# Altium footprint library Chip Resistor - 2 Contacts.PcbLib: 13 footprints
Each footprint in its own frame and in the unit in brackets; x right, y up, seen from the top. Pads: shape width x height; smd on the part's side, far side on the other; paste and mask are expansions set on the pad; w line width, h text height; cw(c..) or ccw(c..) is an arc to the next point about the centre after c.
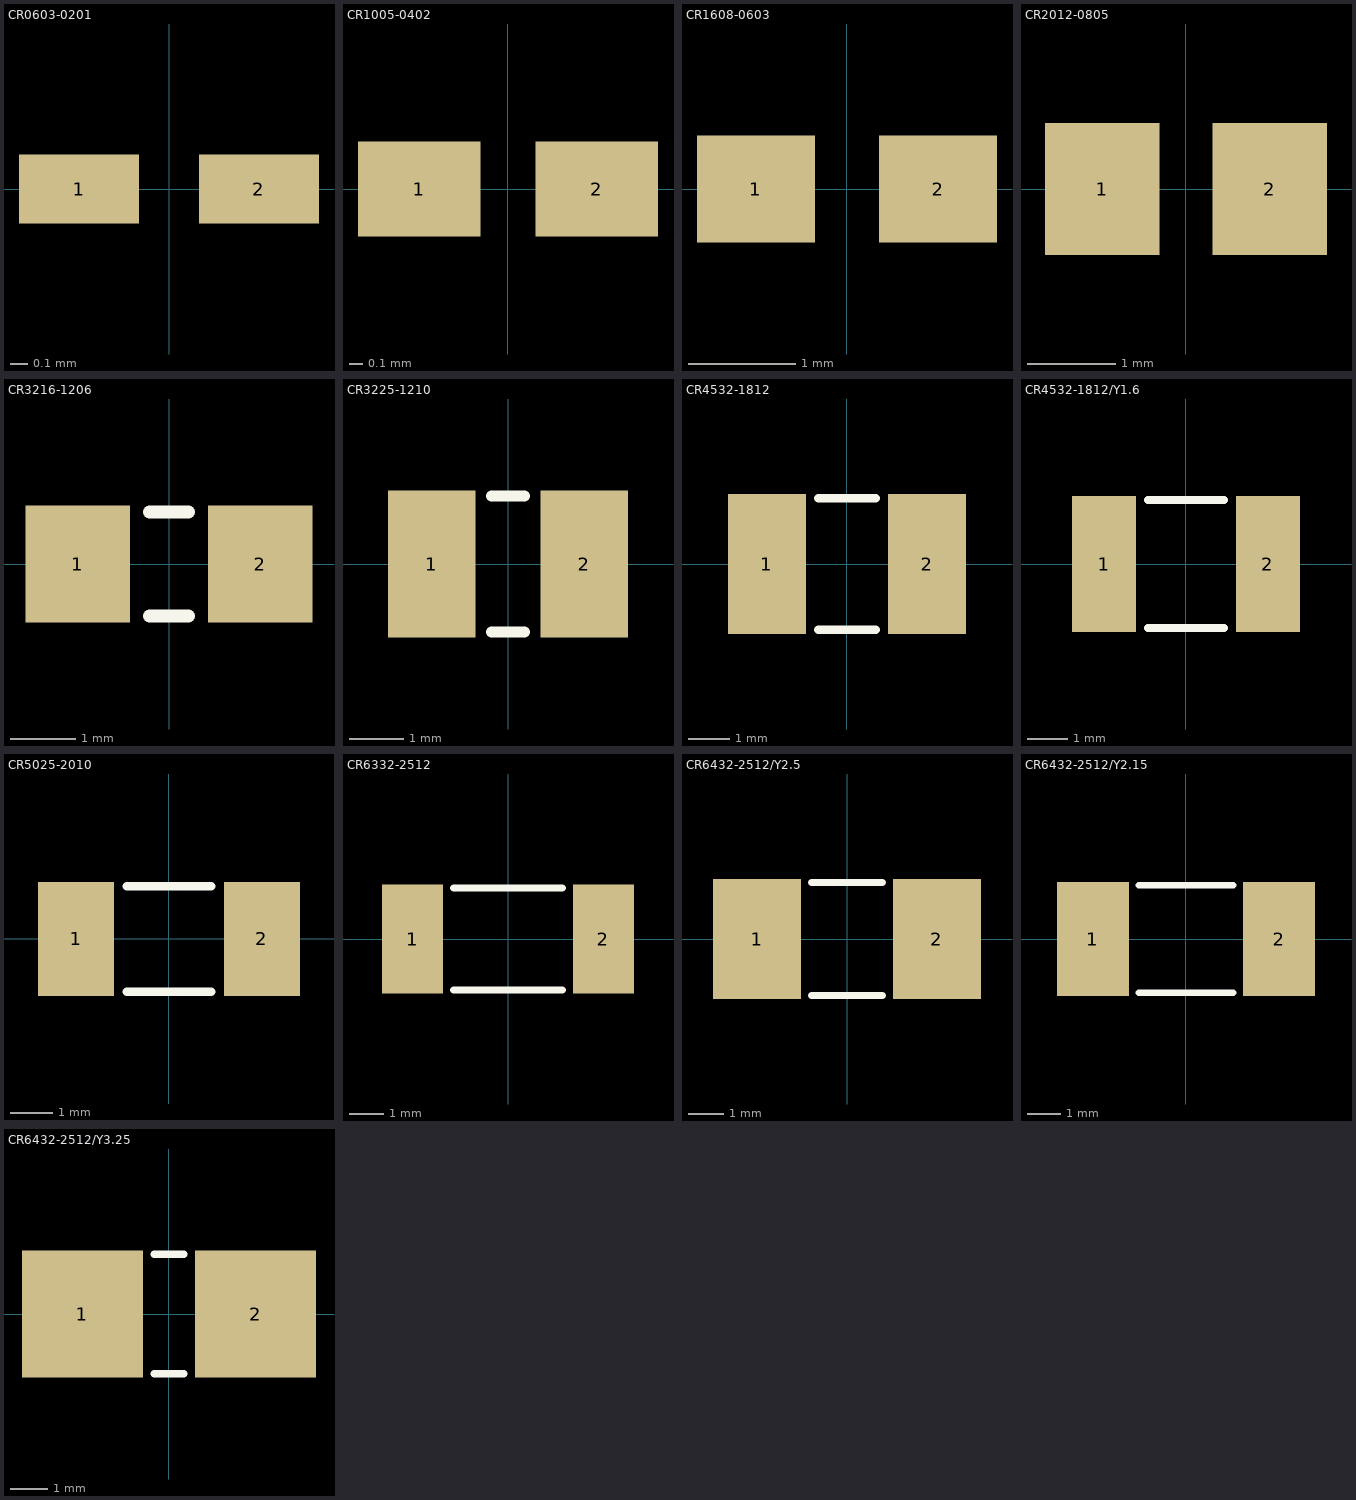
[diagram p0: the footprints below, top view; thin cyan lines are the x and y axes]

## CR0603-0201 [mm] "Chip Resistor; Body 0.6 x 0.3 mm (LxW typ)"
height 0.3
pads (2):
  rect 0.7x0.4 smd: 1(-0.525,0) 2(0.525,0)

## CR1005-0402 [mm] "Chip Resistor; Body 1.1 x 0.5 mm (LxW typ)"
height 0.4
pads (2):
  rect 0.9x0.7 smd: 1(-0.65,0) 2(0.65,0)

## CR1608-0603 [mm] "Chip Resistor; Body 1.6 x 0.8 mm (LxW typ)"
height 0.6
pads (2):
  rect 1.1x1 smd: 1(-0.85,0) 2(0.85,0)

## CR2012-0805 [mm] "Chip Resistor; Body 2.0 x 1.3 mm (LxW typ)"
height 0.65
pads (2):
  rect 1.3x1.5 smd: 1(-0.95,0) 2(0.95,0)

## CR3216-1206 [mm] "Chip Resistor; Body 3.2 x 1.6 mm (LxW typ)"
height 0.71
pads (2):
  rect 1.6x1.8 smd: 1(-1.4,0) 2(1.4,0)
Top Overlay:
  lines w0.2: -0.3,-0.8 0.3,-0.8 ; -0.3,0.8 0.3,0.8

## CR3225-1210 [mm] "Chip Resistor; Body 3.2 x 2.5 mm (LxW typ)"
height 0.71
pads (2):
  rect 1.6x2.7 smd: 1(-1.4,0) 2(1.4,0)
Top Overlay:
  lines w0.2: -0.3,-1.25 0.3,-1.25 ; -0.3,1.25 0.3,1.25

## CR4532-1812 [mm] "Chip Resistor; Body 4.5 x 3.2 mm (LxW typ)"
height 1.35
pads (2):
  rect 1.9x3.4 smd: 1(-1.95,0) 2(1.95,0)
Top Overlay:
  lines w0.2: -0.7,-1.6 0.7,-1.6 ; -0.7,1.6 0.7,1.6

## CR4532-1812/Y1.6 [mm] "Chip Resistor; Body 4.5 x 3.2 mm (LxW typ)"
height 0.7
pads (2):
  rect 1.6x3.4 smd: 1(-2.05,0) 2(2.05,0)
Top Overlay:
  lines w0.2: -0.95,-1.6 0.95,-1.6 ; -0.95,1.6 0.95,1.6

## CR5025-2010 [mm] "Chip Resistor; Body 5.0 x 2.5 mm (LxW typ)"
height 0.71
pads (2):
  rect 1.8x2.7 smd: 1(-2.2,0) 2(2.2,0)
Top Overlay:
  lines w0.2: -1,-1.25 1,-1.25 ; -1,1.25 1,1.25

## CR6332-2512 [mm] "Chip Resistor; Body 6.3 x 3.2 mm (LxW typ)"
height 0.71
pads (2):
  rect 1.8x3.2 smd: 1(-2.8,0) 2(2.8,0)
Top Overlay:
  lines w0.2: -1.6,-1.5 1.6,-1.5 ; -1.6,1.5 1.6,1.5

## CR6432-2512/Y2.5 [mm] "Chip Resistor; Body 6.4 x 3.2 mm (LxW typ)"
height 1.2
pads (2):
  rect 2.5x3.4 smd: 1(-2.55,0) 2(2.55,0)
Top Overlay:
  lines w0.2: -1,-1.6 1,-1.6 ; -1,1.6 1,1.6

## CR6432-2512/Y2.15 [mm] "Chip Resistor; Body 6.4 x 3.2 mm (LxW typ)"
height 1.1
pads (2):
  rect 2.15x3.4 smd: 1(-2.775,0) 2(2.775,0)
Top Overlay:
  lines w0.2: -1.4,-1.6 1.4,-1.6 ; -1.4,1.6 1.4,1.6

## CR6432-2512/Y3.25 [mm] "Chip Resistor; Body 6.4 x 3.2 mm (LxW typ)"
height 1.1
pads (2):
  rect 3.25x3.4 smd: 1(-2.325,0) 2(2.325,0)
Top Overlay:
  lines w0.2: -0.4,-1.6 0.4,-1.6 ; -0.4,1.6 0.4,1.6